# EAGLE library part M5STAMP (library lbr_rin9147)
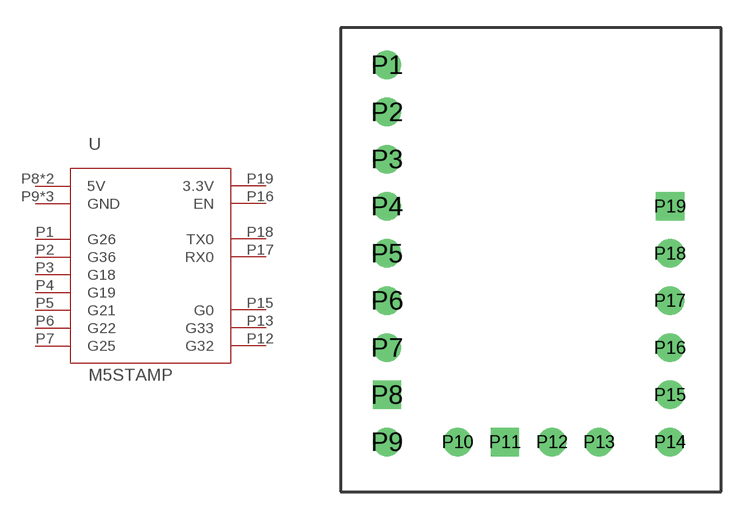
[diagram p6: symbol with the pads of M5STAMP; footprint M5STAMP]

Designator prefix -

## M5STAMP  [M5STAMP]
P1  G26
P2  G36
P3  G18
P4  G19
P5  G21
P6  G22
P7  G25
P8  5V  pas
P9  GND  pas
P10  GND  pas
P11  5V  pas
P12  G32
P13  G33
P14  GND  pas
P15  G0
P16  EN  in
P17  RX0
P18  TX0
P19  3.3V  pas

## Footprint M5STAMP (pad centres in mm)
drill 1.02: P1 0,0; P2 0,-2.54; P3 0,-5.08; P4 0,-7.62; P5 0,-10.16; P6 0,-12.7; P7 0,-15.24; P9 0,-20.32; P10 3.81,-20.32; P12 8.89,-20.32; P13 11.43,-20.32; P14 15.24,-20.32; P15 15.24,-17.78; P16 15.24,-15.24; P17 15.24,-12.7; P18 15.24,-10.16
drill 1.02 square: P8 0,-17.78; P11 6.35,-20.32; P19 15.24,-7.62